# Altium schematic symbol library PS9905.SchLib: 1 symbol
Pins are listed as number, name and electrical type; pins without a type are passive.

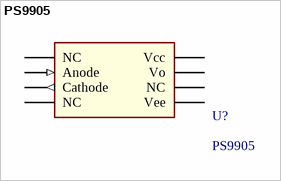
[diagram p0: symbol PS9905]

## PS9905
designator U?
2.5A Gate Driver Optical Coupling 7500Vrms 1 Channel 8-LSDIP; Manufacturer 1: CEL; Manufacturer 1 PN: PS9905-Y-AX; ComponentLink1Description: Datasheet; ComponentLink1URL: http://www.cel.com/pdf/datasheets/ps9905.pdf; Digikey PN: PS9905-Y-AX-ND; Mouser PN: 551-PS9905-Y-V-AX
footprint PS9905 (2.5A Gate Driver Optical Coupling 7500Vrms 1 Channel 8-LSDIP)
pins: 1 NC (power), 2 Anode (in), 3 Cathode (out), 4 NC (power), 5 Vee (power), 6 NC (power), 7 Vo (power), 8 Vcc (power)